# EAGLE library part RTL8211E (library ICs)
RTL8211E Series 3.3 V Integrated 10/100/1000 Gigabit
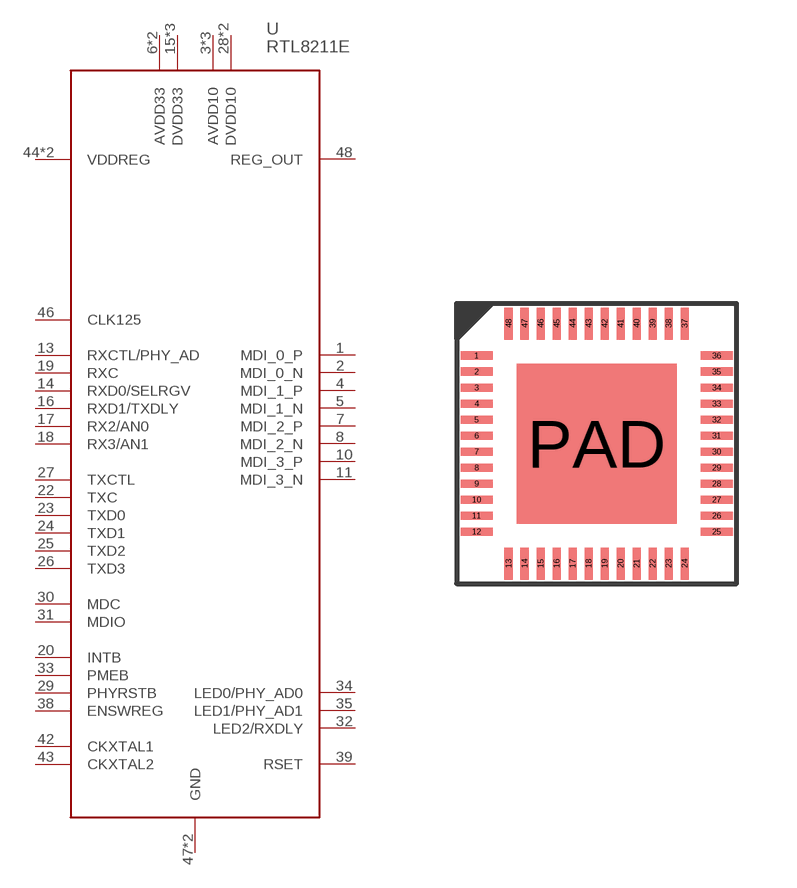
[diagram p328: symbol with the pads of QFN48_6X6; footprint QFN48_6X6]

Designator prefix U

## RTL8211E-VB (HEIGHT: 1; LCSC: C90735; PRICE_PER: 1.18; VALUE: RTL8211E)  [QFN48_6X6]
1  MDI_0_P
2  MDI_0_N
3  AVDD10
4  MDI_1_P
5  MDI_1_N
6  AVDD33
7  MDI_2_P
8  MDI_2_N
9  AVDD10
10  MDI_3_P
11  MDI_3_N
13  RXCTL/PHY_AD
14  RXD0/SELRGV
15  DVDD33
16  RXD1/TXDLY
17  RX2/AN0
18  RX3/AN1
19  RXC
20  INTB
21  DVDD33
22  TXC
23  TXD0
24  TXD1
25  TXD2
26  TXD3
27  TXCTL
28  DVDD10
29  PHYRSTB
30  MDC
31  MDIO
32  LED2/RXDLY
33  PMEB
34  LED0/PHY_AD0
35  LED1/PHY_AD1
36  DVDD10
37  DVDD33
38  ENSWREG
39  RSET
40  AVDD10
41  AVDD33
42  CKXTAL1
43  CKXTAL2
44  VDDREG
45  VDDREG
46  CLK125
47  GND
48  REG_OUT
PAD  GND

## Footprint QFN48_6X6 (pad centres in mm)
smd 0.8 x 0.2: 1 -3,2.2; 2 -3,1.8; 3 -3,1.4; 4 -3,1; 5 -3,0.6; 6 -3,0.2; 7 -3,-0.2; 8 -3,-0.6; 9 -3,-1; 10 -3,-1.4; 11 -3,-1.8; 12 -3,-2.2; 25 3,-2.2; 26 3,-1.8; 27 3,-1.4; 28 3,-1; 29 3,-0.6; 30 3,-0.2; 31 3,0.2; 32 3,0.6; 33 3,1; 34 3,1.4; 35 3,1.8; 36 3,2.2
smd 0.2 x 0.8: 13 -2.2,-3; 14 -1.8,-3; 15 -1.4,-3; 16 -1,-3; 17 -0.6,-3; 18 -0.2,-3; 19 0.2,-3; 20 0.6,-3; 21 1,-3; 22 1.4,-3; 23 1.8,-3; 24 2.2,-3; 37 2.2,3; 38 1.8,3; 39 1.4,3; 40 1,3; 41 0.6,3; 42 0.2,3; 43 -0.2,3; 44 -0.6,3; 45 -1,3; 46 -1.4,3; 47 -1.8,3; 48 -2.2,3
smd 4 x 4: PAD 0,0